# Altium schematic symbol library Fasterners and Fixings.SchLib: 8 symbols
Pins are listed as number, name and electrical type; pins without a type are passive.

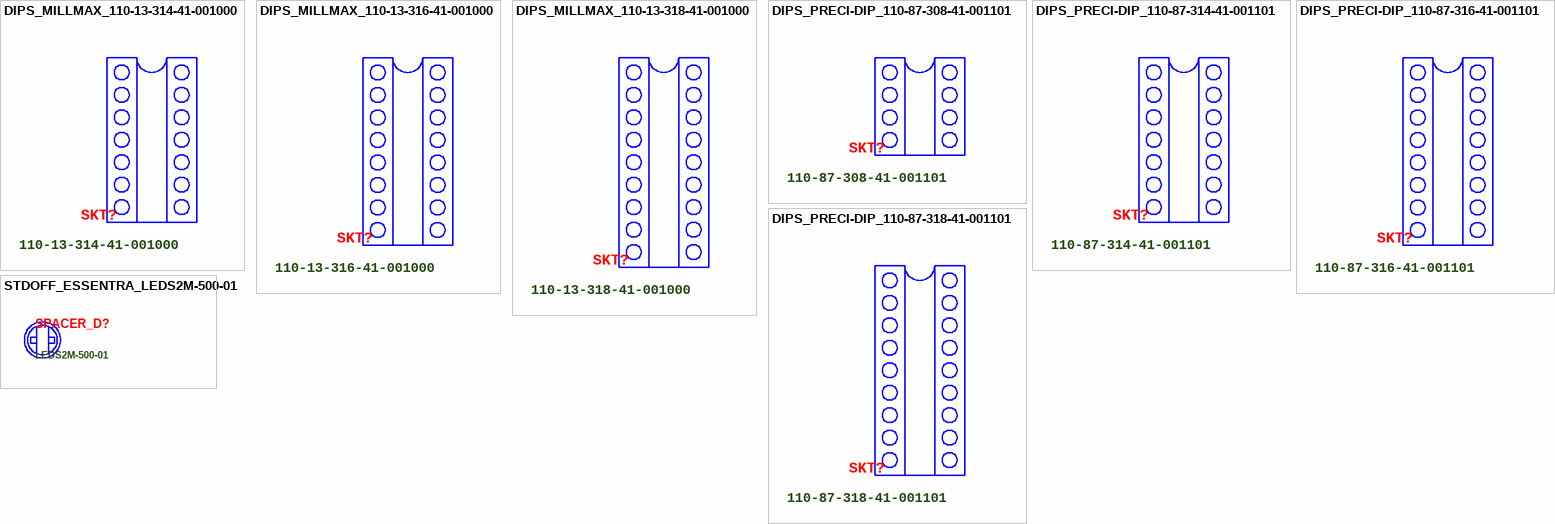
[diagram p0: symbols DIPS_MILLMAX_110-13-314-41-001000 to STDOFF_ESSENTRA_LEDS2M-500-01]

## DIPS_MILLMAX_110-13-314-41-001000
designator SKT?, comment 110-13-314-41-001000
Socket 14 (2 x 7) Pos DIP, 0.3" (7.62mm) Row Spacing Gold Through Hole; Manufacturer: Mill-Max; Current Rating: 3A; Contact Resistance: 10mR; Number of Positions: 14; Pitch: 2.54mm; Manufacturer Part Number: 110-13-314-41-001000; Category: IC and Component Sockets; Mounting Technology: Through Hole; Case/Package: DIP; Contact Plating: Gold; Min Operating Temperature: -55°C; Max Operating Temperature: 125°C; Number of Rows: 2; Number of Contacts: 14; Orientation: Straight; Contact Type: Type D; Length: 17.78mm; RoHS Compliant: Yes; ComponentLink1URL: https://www.mill-max.com/catalog/download/2017-11:090.pdf; ComponentLink1Description: Datasheet; Supplier 1: Digi-Key; Supplier 2: Mouser; Supplier Part Number 1: ED56143-ND; Supplier Part Number 2: 575-113316
footprint DIPS762W52P254L1905H533Q14 (Dual-In-Line Package Socket; Lead Span 7.62mm, Lead Width 0.52mm, Pin Pitch 2.54mm, Body Length 19.05mm, Body Height 5.33mm, Pin Qty 14)

## DIPS_MILLMAX_110-13-316-41-001000
designator SKT?, comment 110-13-316-41-001000
Socket 16 (2 x 8) Pos DIP, 0.3" (7.62mm) Row Spacing Gold Through Hole; Manufacturer: Mill-Max; Current Rating: 3A; Contact Resistance: 10mR; Number of Positions: 16; Pitch: 2.54mm; Manufacturer Part Number: 110-13-316-41-001000; Category: IC and Component Sockets; Mounting Technology: Through Hole; Case/Package: DIP; Contact Plating: Gold; Min Operating Temperature: -55°C; Max Operating Temperature: 125°C; Number of Rows: 2; Number of Contacts: 16; Orientation: Straight; Contact Type: Type D; Length: 20.3mm; RoHS Compliant: Yes; ComponentLink1URL: https://www.mill-max.com/catalog/download/2017-11:090.pdf; ComponentLink1Description: Datasheet; Supplier 1: Digi-Key; Supplier 2: Mouser; Supplier Part Number 1: ED56163-ND; Supplier Part Number 2: 575-113316
footprint DIPS762W52P254L1930H500Q16 (Dual-In-Line Package Socket; Lead Span 7.62mm, Lead Width 0.52mm, Pin Pitch 2.54mm, Body Length 19.30mm, Body Height 5.00mm, Pin Qty 16)

## DIPS_MILLMAX_110-13-318-41-001000
designator SKT?, comment 110-13-318-41-001000
Socket 18 (2 x 9) Pos DIP, 0.3" (7.62mm) Row Spacing Gold Through Hole; Manufacturer: Mill-Max; Current Rating: 3A; Contact Resistance: 10mR; Number of Positions: 18; Pitch: 2.54mm; Manufacturer Part Number: 110-13-318-41-001000; Category: IC and Component Sockets; Mounting Technology: Through Hole; Case/Package: DIP; Contact Plating: Gold; Min Operating Temperature: -55°C; Max Operating Temperature: 125°C; Number of Rows: 2; Number of Contacts: 18; Orientation: Straight; Contact Type: Type D; Length: 22.86mm; RoHS Compliant: Yes; ComponentLink1URL: https://www.mill-max.com/catalog/download/2017-11:090.pdf; ComponentLink1Description: Datasheet; Supplier 1: Digi-Key; Supplier 2: Mouser; Supplier Part Number 1: ED56183-ND; Supplier Part Number 2: 575-113318
footprint DIPS762W52P254L2270H500Q18 (Dual-In-Line Package Socket; Lead Span 7.62mm, Lead Width 0.52mm, Pin Pitch 2.54mm, Body Length 22.70mm, Body Height 5.00mm, Pin Qty 18)

## DIPS_PRECI-DIP_110-87-308-41-001101
designator SKT?, comment 110-87-308-41-001101
Socket 8 (2 x 4) Pos DIP, 0.3" (7.62mm) Row Spacing Gold Through Hole; Manufacturer: Preci-Dip; Current Rating: 1A; Contact Resistance: 10mR; Number of Contacts: 8; Pitch: 2.54mm; Manufacturer Part Number: 110-87-308-41-001101; Category: IC and Component Sockets; Mounting Technology: Through Hole; Min Operating Temperature: -55°C; Max Operating Temperature: 125°C; Orientation: Straight; Number of Rows: 2; Length: 10.1mm; RoHS Compliant: Yes; ComponentLink1URL: https://www.precidip.com/AppHost/9698,1/Scripts/Modules/Catalog/Default.aspx?c=14&i=121&p=23&pdf=1&dsku=110-PP-XXX-41-001101; ComponentLink1Description: Datasheet; Case/Package: DIP; Contact Plating: Gold,Tin; Supplier 1: Digi-Key; Supplier Part Number 1: 1212-1003-ND; Supplier 2: Mouser; Supplier Part Number 2: 437-1108730841001101
footprint DIPS762W50P254L1010H420Q08 (Dual-In-Line Package Socket; Lead Span 7.62mm, Lead Width 0.5mm, Pin Pitch 2.54mm, Body Length 10.10mm, Body Height 4.22mm, Pin Qty 8)

## DIPS_PRECI-DIP_110-87-314-41-001101
designator SKT?, comment 110-87-314-41-001101
Socket 14 (2 x 7) Pos DIP, 0.3" (7.62mm) Row Spacing Gold Through Hole; Manufacturer: Preci-Dip; Current Rating: 1A; Contact Resistance: 10mR; Number of Contacts: 14; Pitch: 2.54mm; Manufacturer Part Number: 110-87-314-41-001101; Category: IC and Component Sockets; Mounting Technology: Through Hole; Min Operating Temperature: -55°C; Max Operating Temperature: 125°C; Orientation: Straight; Number of Rows: 2; Length: 17.7mm; RoHS Compliant: Yes; ComponentLink1URL: https://www.precidip.com/AppHost/9698,1/Scripts/Modules/Catalog/Default.aspx?c=14&i=121&p=23&pdf=1&dsku=110-PP-XXX-41-001101; ComponentLink1Description: Datasheet; Case/Package: DIP; Contact Plating: Gold,Tin; Supplier 1: Digi-Key; Supplier 2: Mouser; Supplier Part Number 1: 1212-1007-ND
footprint DIPS762W50P254L1770H420Q14 (Dual-In-Line Package Socket; Lead Span 7.62mm, Lead Width 0.5mm, Pin Pitch 2.54mm, Body Length 17.70mm, Body Height 4.22mm, Pin Qty 14)

## DIPS_PRECI-DIP_110-87-316-41-001101
designator SKT?, comment 110-87-316-41-001101
Socket 16 (2 x 8) Pos DIP, 0.3" (7.62mm) Row Spacing Gold Through Hole; Manufacturer: Preci-Dip; Contact Resistance: 10mR; Current Rating: 1A; Number of Contacts: 16; Pitch: 2.54mm; Manufacturer Part Number: 110-87-316-41-001101; Category: IC and Component Sockets; RoHS Compliant: Yes; Case/Package: DIP; ComponentLink1Description: Datasheet; ComponentLink1URL: https://www.precidip.com/AppHost/9698,1/Scripts/Modules/Catalog/Default.aspx?c=14&i=121&p=23&pdf=1&dsku=110-PP-XXX-41-001101; Contact Plating: Gold,Tin; Length: 20.3mm; Max Operating Temperature: 125°C; Min Operating Temperature: -55°C; Mounting Technology: Through Hole; Number of Positions: 16; Number of Rows: 2; Orientation: Straight; Supplier 1: Digi-Key; Supplier Part Number 1: 1212-1009-ND; Supplier 2: Mouser; Supplier Part Number 2: 437-1108731641001101
footprint DIPS762W50P254L2030H420Q16 (Dual-In-Line Package Socket; Lead Span 7.62mm, Lead Width 0.5mm, Pin Pitch 2.54mm, Body Length 20.30mm, Body Height 4.22mm, Pin Qty 16)

## DIPS_PRECI-DIP_110-87-318-41-001101
designator SKT?, comment 110-87-318-41-001101
Socket 18 (2 x 9) Pos DIP, 0.3" (7.62mm) Row Spacing Gold Through Hole; Manufacturer: Preci-Dip; Contact Resistance: 10mR; Current Rating: 1A; Number of Contacts: 18; Pitch: 2.54mm; Manufacturer Part Number: 110-87-318-41-001101; Category: IC and Component Sockets; Mounting Technology: Through Hole; Contact Plating: Gold,Tin; Min Operating Temperature: -55°C; Max Operating Temperature: 125°C; Number of Rows: 2; Orientation: Straight; Length: 22.8mm; RoHS Compliant: Yes; ComponentLink1URL: https://www.precidip.com/AppHost/9698,1/Scripts/Modules/Catalog/Default.aspx?c=14&i=121&p=23&pdf=1&dsku=110-PP-XXX-41-001101; ComponentLink1Description: Datasheet; Case/Package: DIP; Supplier 1: Digi-Key; Supplier Part Number 1: 1212-1011-ND; Supplier 2: Mouser; Supplier Part Number 2: 437-1108731841001101
footprint DIPS762W50P254L2280H420Q18 (Dual-In-Line Package Socket; Lead Span 7.62mm, Lead Width 0.5mm, Pin Pitch 2.54mm, Body Length 22.80mm, Body Height 4.22mm, Pin Qty 18)

## STDOFF_ESSENTRA_LEDS2M-500-01
designator SPACER_D?, comment LEDS2M-500-01
LED Standoff T1 3/4 Natural Nylon 0.500" (12.70mm); Manufacturer: Essentra Components; Manufacturer Part Number: LEDS2M-500-01; Category: Spacers, Standoffs; Case/Package: Molded; Material: Nylon; Color: Natural; Length: 12.70mm; ComponentLink1URL: http://www.essentracomponents.com.sg/images-line/pdfs/LEDS2M.pdf?src-supplier=Digi-Key; ComponentLink1Description: Datasheet; Supplier 1: Digi-Key; Supplier Part Number 1: RPC4282-ND; Supplier 2: Mouser; Supplier Part Number 2: 144-LEDS2M-500-01
footprint LED_SPACER_ESSENTRA_LEDS2M-500-01 (T1 3/4 LED Standoff Natural Nylon 0.500" (12.70mm))